# EAGLE library part MAX30205MTA+ (library graftel-internal-ic)
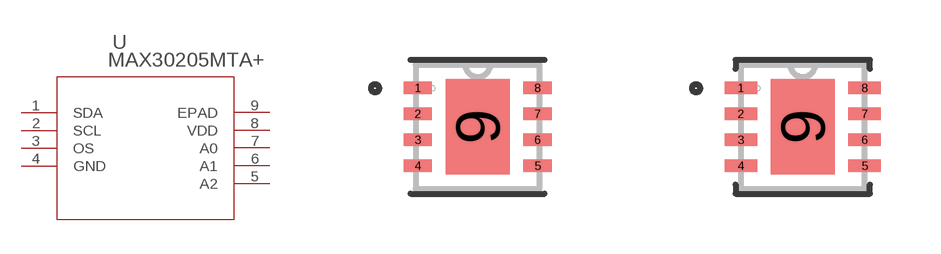
[diagram p96: symbol with the pads of 21-0137_T833+2_MXM; footprints 21-0137_T833+2_MXM, 21-0137_T833+2_MXM-M]

Designator prefix U

## MAX30205MTA+ (BUILT_BY: EMA_UL_Team; COPYRIGHT: Copyright (C) 2018 Accelerated Designs. All rights reserved; MANUFACTURER_PART_NUMBER: MAX30205MTA+; REVISION: 4; SOURCELIBRARY: Update_to_database_2020-12-07; VENDOR: Maxim Integrated Products)  [21-0137_T833+2_MXM]
1  SDA  pas
2  SCL  pas
3  OS  pas
4  GND  pas
5  A2
6  A1
7  A0
8  VDD  pwr
9  EPAD  pas

## MAX30205MTA+21-0137_T833+2_MXM-M (BUILT_BY: EMA_UL_Team; COPYRIGHT: Copyright (C) 2018 Accelerated Designs. All rights reserved; MANUFACTURER_PART_NUMBER: MAX30205MTA+; REVISION: 4; SOURCELIBRARY: Update_to_database_2020-12-07; VENDOR: Maxim Integrated Products)  [21-0137_T833+2_MXM-M]
Pads as for 21-0137_T833+2_MXM

## MAX30205MTA+21-0137_T833+2_MXM-L (BUILT_BY: EMA_UL_Team; COPYRIGHT: Copyright (C) 2018 Accelerated Designs. All rights reserved; MANUFACTURER_PART_NUMBER: MAX30205MTA+; REVISION: 4; SOURCELIBRARY: Update_to_database_2020-12-07; VENDOR: Maxim Integrated Products)  [21-0137_T833+2_MXM-L]
Pads as for 21-0137_T833+2_MXM

## Footprint 21-0137_T833+2_MXM (pad centres in mm)
smd 0.711 x 0.305: 1 -1.499,0.975; 2 -1.499,0.325; 3 -1.499,-0.325; 4 -1.499,-0.975; 5 1.499,-0.975; 6 1.499,-0.325; 7 1.499,0.325; 8 1.499,0.975
smd 1.6 x 2.388: 9 0,0

## Footprint 21-0137_T833+2_MXM-M (pad centres in mm)
smd 0.813 x 0.305: 1 -1.549,0.975; 2 -1.549,0.325; 3 -1.549,-0.325; 4 -1.549,-0.975; 5 1.549,-0.975; 6 1.549,-0.325; 7 1.549,0.325; 8 1.549,0.975
smd 1.6 x 2.388: 9 0,0

## Footprint 21-0137_T833+2_MXM-L (pad centres in mm)
smd 0.61 x 0.305: 1 -1.448,0.975; 2 -1.448,0.325; 3 -1.448,-0.325; 4 -1.448,-0.975; 5 1.448,-0.975; 6 1.448,-0.325; 7 1.448,0.325; 8 1.448,0.975
smd 1.6 x 2.388: 9 0,0